# Altium footprint library TerminalM4.PcbLib: 1 footprints
Each footprint in its own frame and in the unit in brackets; x right, y up, seen from the top. Pads: shape width x height; smd on the part's side, far side on the other; paste and mask are expansions set on the pad; w line width, h text height; cw(c..) or ccw(c..) is an arc to the next point about the centre after c.
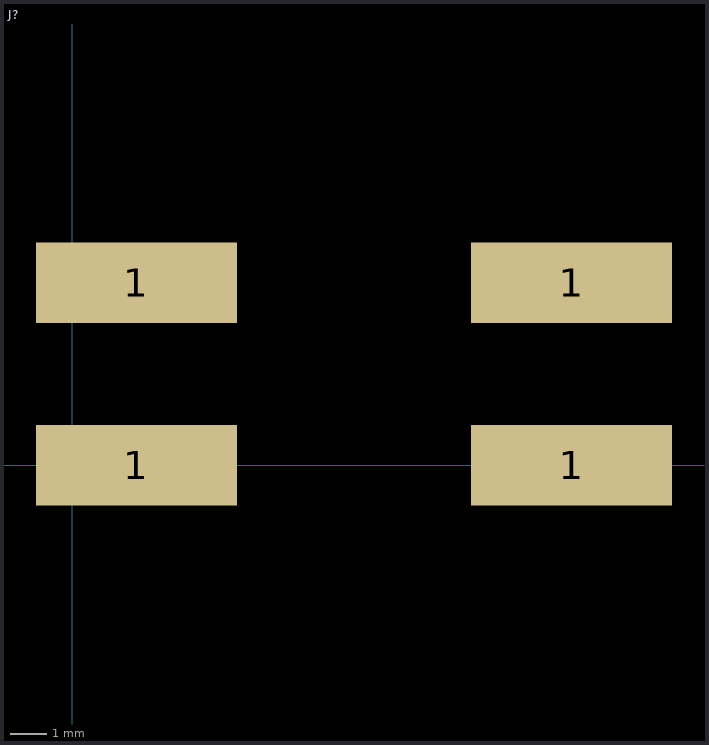
[diagram p0: the footprint, top view; thin cyan lines are the x and y axes]

## J? [mm]
pads (4):
  rect 5.5x2.2 smd: 1(1.75,0) 1(1.75,5) 1(13.65,0) 1(13.65,5)
3D body "terminal.STEP": height 7.3, standoff 0, extent -0.7,-1.5 16.1,6.5